# EAGLE library part TXS104 (library rk_logic)
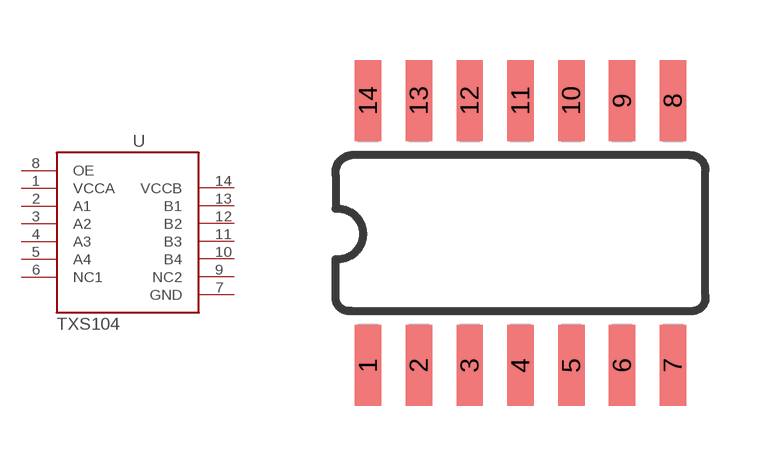
[diagram p0: symbol with the pads of SOIC-14; footprint SOIC-14]

Designator prefix -

## TXS104  [SOIC-14]
1  VCCA
2  A1
3  A2
4  A3
5  A4
6  NC1
7  GND
8  OE
9  NC2
10  B4
11  B3
12  B2
13  B1
14  VCCB

## Footprint SOIC-14 (pad centres in mm)
smd 0.66 x 2.032: 1 -3.175,-3.315; 2 -1.905,-3.315; 3 -0.635,-3.315; 4 0.635,-3.315; 5 1.905,-3.315; 6 3.175,-3.315; 7 4.445,-3.315; 8 4.445,3.315; 9 3.175,3.315; 10 1.905,3.315; 11 0.635,3.315; 12 -0.635,3.315; 13 -1.905,3.315; 14 -3.175,3.315